# EAGLE library part PIC16F720 (library mike-temp)
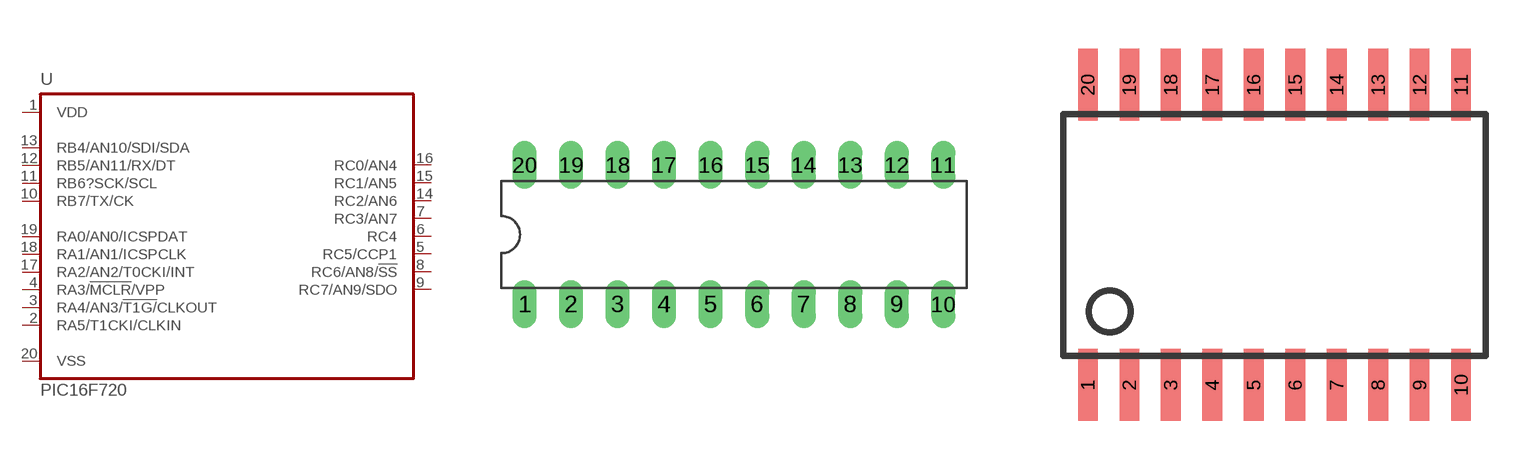
[diagram p49: symbol with the pads of DIL20; footprints DIL20, SO20]

Designator prefix U

## PIC16F720DIP20  [DIL20]
1  VDD  pwr
2  RA5/T1CKI/CLKIN  in
3  RA4/AN3/!T1G/!CLKOUT
4  RA3/!MCLR!/VPP
5  RC5/CCP1
6  RC4
7  RC3/AN7
8  RC6/AN8/!SS
9  RC7/AN9/SDO
10  RB7/TX/CK
11  RB6?SCK/SCL
12  RB5/AN11/RX/DT
13  RB4/AN10/SDI/SDA
14  RC2/AN6
15  RC1/AN5
16  RC0/AN4
17  RA2/AN2/T0CKI/INT
18  RA1/AN1/ICSPCLK
19  RA0/AN0/ICSPDAT
20  VSS  pwr

## PIC16F720SO20  [SO20]
Pads as for DIL20

## PIC16F720SSOP20  [SSOP20]
Pads as for DIL20

## Footprint DIL20 (pad centres in mm)
drill 0.813 long: 1 0,0; 2 2.54,0; 3 5.08,0; 4 7.62,0; 5 10.16,0; 6 12.7,0; 7 15.24,0; 8 17.78,0; 9 20.32,0; 10 22.86,0; 11 22.86,7.62; 12 20.32,7.62; 13 17.78,7.62; 14 15.24,7.62; 15 12.7,7.62; 16 10.16,7.62; 17 7.62,7.62; 18 5.08,7.62; 19 2.54,7.62; 20 0,7.62

## Footprint SO20 (pad centres in mm)
smd 0.6 x 2.2: 1 -6.065,-4.79; 2 -4.795,-4.79; 3 -3.525,-4.79; 4 -2.255,-4.79; 5 -0.985,-4.79; 6 0.285,-4.79; 7 1.555,-4.79; 8 2.825,-4.79; 9 4.095,-4.79; 10 5.365,-4.79; 11 5.365,4.41; 12 4.095,4.41; 13 2.825,4.41; 14 1.555,4.41; 15 0.285,4.41; 16 -0.985,4.41; 17 -2.255,4.41; 18 -3.525,4.41; 19 -4.795,4.41; 20 -6.065,4.41

## Footprint SSOP20 (pad centres in mm)
smd 0.4 x 1.5: 1 0.885,0.185; 2 1.535,0.185; 3 2.185,0.185; 4 2.835,0.185; 5 3.485,0.185; 6 4.135,0.185; 7 4.785,0.185; 8 5.435,0.185; 9 6.085,0.185; 10 6.735,0.185; 11 6.735,7.435; 12 6.085,7.435; 13 5.435,7.435; 14 4.785,7.435; 15 4.135,7.435; 16 3.485,7.435; 17 2.835,7.435; 18 2.185,7.435; 19 1.535,7.435; 20 0.885,7.435